# EAGLE library part 4455-C18_S (library con-molex-kk)
RECEPTACAL
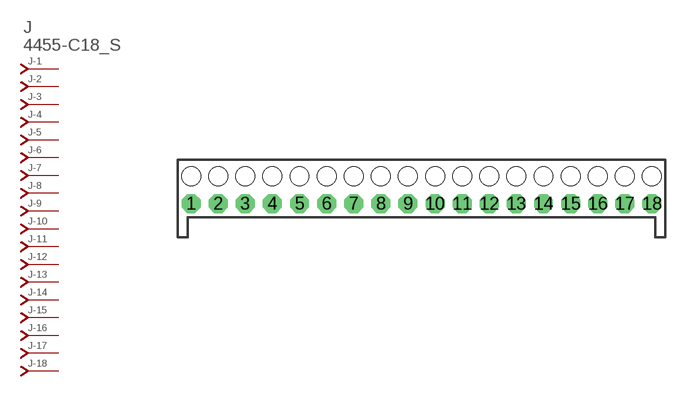
[diagram p47: symbol with the pads of 4455-C18; footprint 4455-C18]

Designator prefix J; gates -1=J-NV -2=J-N -3=J-N -4=J-N -5=J-N -6=J-N -7=J-N -8=J-N -9=J-N -10=J-N -11=J-N -12=J-N -13=J-N -14=J-N -15=J-N -16=J-N -17=J-N -18=J-N

## 4455-C18_S  [4455-C18]
1  -1:J  pas
2  -2:J  pas
3  -3:J  pas
4  -4:J  pas
5  -5:J  pas
6  -6:J  pas
7  -7:J  pas
8  -8:J  pas
9  -9:J  pas
10  -10:J  pas
11  -11:J  pas
12  -12:J  pas
13  -13:J  pas
14  -14:J  pas
15  -15:J  pas
16  -16:J  pas
17  -17:J  pas
18  -18:J  pas

## Footprint 4455-C18 (pad centres in mm)
RECEPTACAL Vertical, Top Entry, 0.1" pitch
drill 1.016 pad 1.778 octagon: 1 -21.59,0; 2 -19.05,0; 3 -16.51,0; 4 -13.97,0; 5 -11.43,0; 6 -8.89,0; 7 -6.35,0; 8 -3.81,0; 9 -1.27,0; 10 1.27,0; 11 3.81,0; 12 6.35,0; 13 8.89,0; 14 11.43,0; 15 13.97,0; 16 16.51,0; 17 19.05,0; 18 21.59,0
hole 1.778 at -21.59,2.54
hole 1.778 at -19.05,2.54
hole 1.778 at -16.51,2.54
hole 1.778 at -13.97,2.54
hole 1.778 at -11.43,2.54
hole 1.778 at -8.89,2.54
hole 1.778 at -6.35,2.54
hole 1.778 at -3.81,2.54
hole 1.778 at -1.27,2.54
hole 1.778 at 1.27,2.54
hole 1.778 at 3.81,2.54
hole 1.778 at 6.35,2.54
hole 1.778 at 8.89,2.54
hole 1.778 at 11.43,2.54
hole 1.778 at 13.97,2.54
hole 1.778 at 16.51,2.54
hole 1.778 at 19.05,2.54
hole 1.778 at 21.59,2.54